# Altium integrated library 618015330923.IntLib: 1 symbol
Pins are listed as number, name and electrical type; pins without a type are passive.

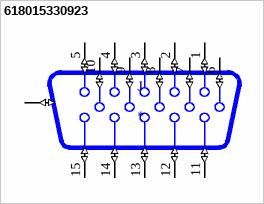
[diagram p0: symbol 618015330923]

## 618015330923
designator J
15 Position D-Sub, High Density Receptacle, Female Sockets Connector; MF: WÃ¼rth Elektronik; MP: 618015330923; Price: None; Value: *; Package: None; Availability: Unavailable; SnapEDA_Link: https://www.snapeda.com/parts/618015330923/W%C3%BCrth%20Elektronik/view-part/1118241/?ref=snap
footprint 618015330923
pins: 1 (io), 2 (io), 3 (io), 4 (io), 5 (io), 6 (io), 7 (io), 8 (io), 9 (io), 10 (io), 11 (io), 12 (io), 13 (io), 14 (io), 15 (io), SHELL SHIELD (io), SHELL1 SHIELD (io)